# Altium footprint library footprints.PcbLib: 15 footprints
Each footprint in its own frame and in the unit in brackets; x right, y up, seen from the top. Pads: shape width x height; smd on the part's side, far side on the other; paste and mask are expansions set on the pad; w line width, h text height; cw(c..) or ccw(c..) is an arc to the next point about the centre after c.
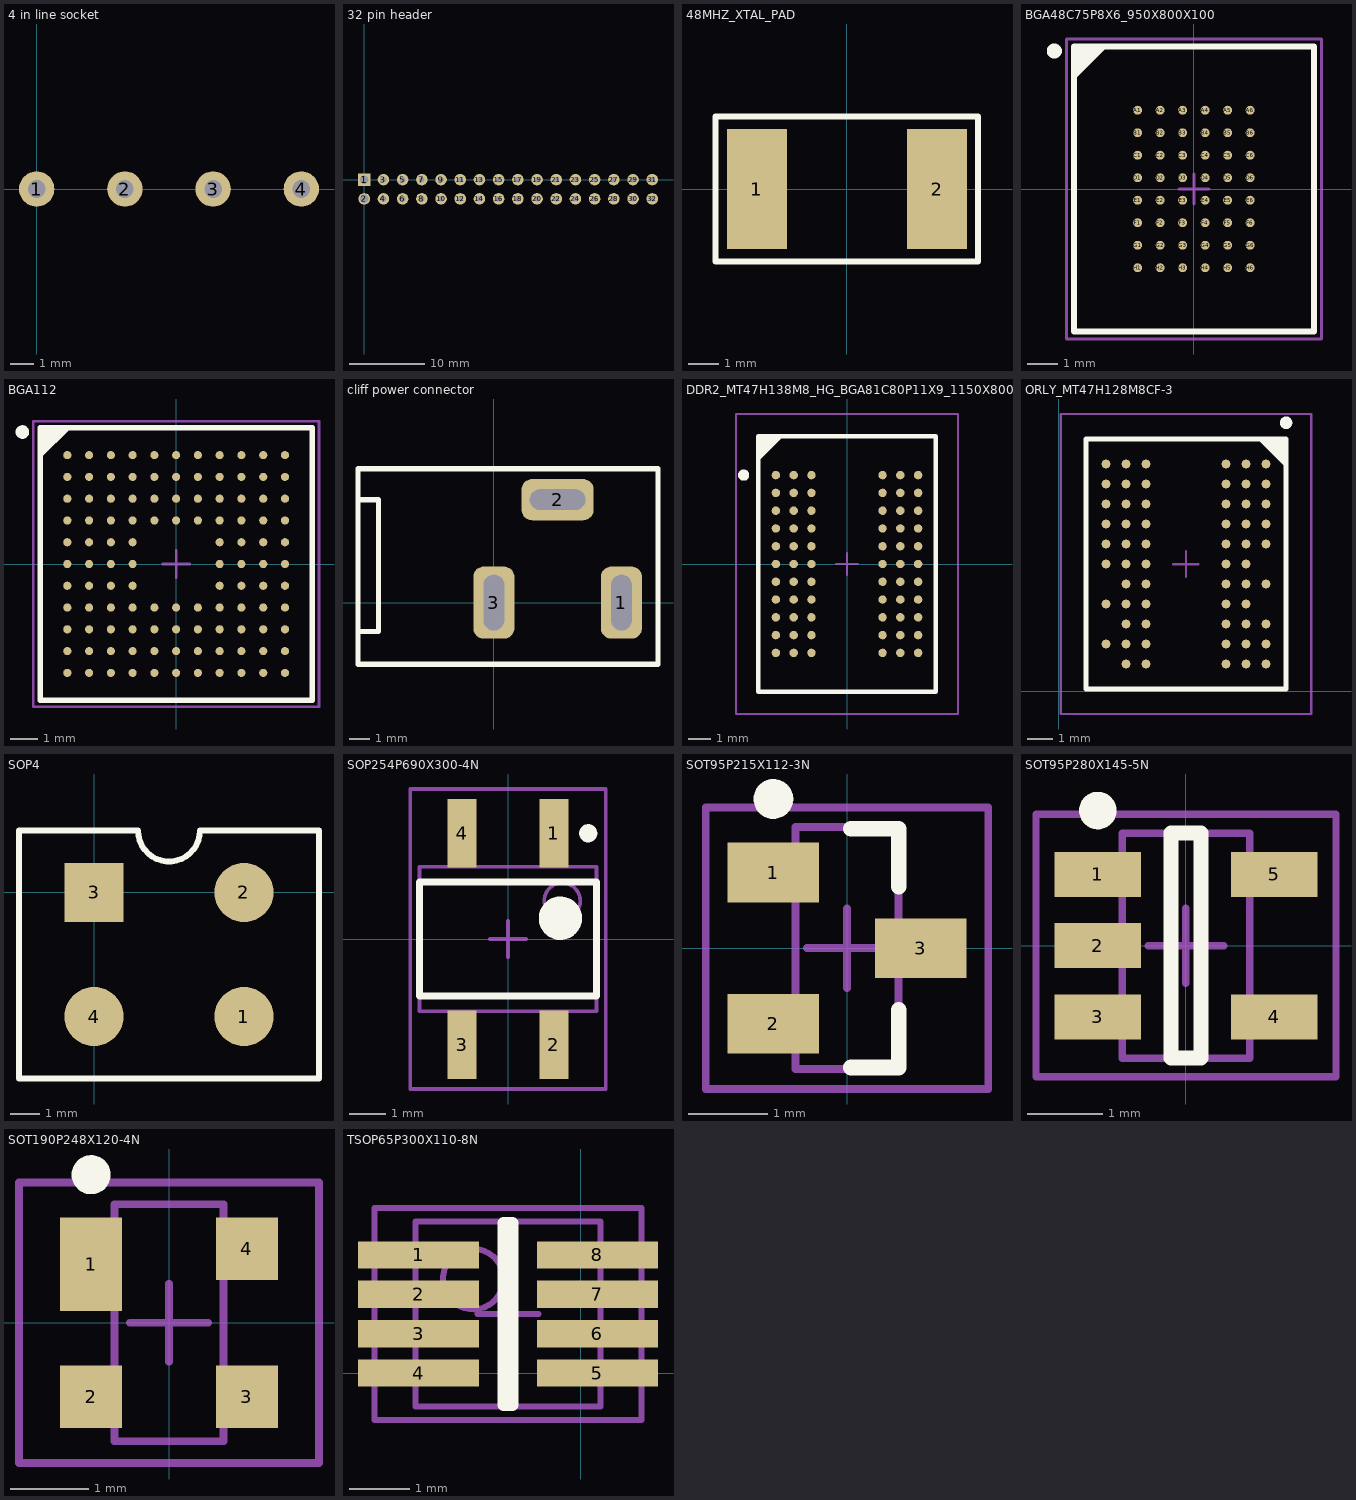
[diagram p0: the footprints below, top view; thin cyan lines are the x and y axes]

## 4 in line socket [mil]
pads (4):
  round 60 hole 30: 1(0,0) 2(149.61,0) 3(299.21,0) 4(448.82,0)

## 32 pin header [mil]
pads (32):
  rect 64.96x64.96 hole 43.31: 1(0,0)
  round 60 hole 43.31: 2(0,-100)
  round 60 hole 30: 3(100,0) 4(100,-100) 5(200,0) 6(200,-100) 7(300,0) 8(300,-100) 9(400,0) 10(400,-100) 11(500,0) 12(500,-100) 13(600,0) 14(600,-100) 15(700,0) 16(700,-100) 17(800,0) 18(800,-100) 19(900,0) 20(900,-100) 21(1000,0) 22(1000,-100) 23(1100,0) 24(1100,-100) 25(1200,0) 26(1200,-100) 27(1300,0) 28(1300,-100) 29(1400,0) 30(1400,-100) 31(1500,0) 32(1500,-100)

## 48MHZ_XTAL_PAD [mm]
pads (2):
  rect 2x4 smd: 1(-3,0) 2(3,0)
Top Overlay:
  lines w0.2: -4.375,-2.425 -4.375,0.375 -4.375,2.425 4.375,2.425 4.375,-2.425 -4.375,-2.425

## BGA48C75P8X6_950X800X100 [mm] "BGA, 48-Leads, Body 9.5x8.0mm,  Pitch 0.75mm"
height 1
pads (48):
  round 0.3 smd mask+0.06: A1(-1.875,2.625) A2(-1.125,2.625) A3(-0.375,2.625) A4(0.375,2.625) A5(1.125,2.625) A6(1.875,2.625) B1(-1.875,1.875) B2(-1.125,1.875) B3(-0.375,1.875) B4(0.375,1.875) B5(1.125,1.875) B6(1.875,1.875) C1(-1.875,1.125) C2(-1.125,1.125) C3(-0.375,1.125) C4(0.375,1.125) C5(1.125,1.125) C6(1.875,1.125) D1(-1.875,0.375) D2(-1.125,0.375) D3(-0.375,0.375) D4(0.375,0.375) D5(1.125,0.375) D6(1.875,0.375) E1(-1.875,-0.375) E2(-1.125,-0.375) E3(-0.375,-0.375) E4(0.375,-0.375) E5(1.125,-0.375) E6(1.875,-0.375) F1(-1.875,-1.125) F2(-1.125,-1.125) F3(-0.375,-1.125) F4(0.375,-1.125) F5(1.125,-1.125) F6(1.875,-1.125) G1(-1.875,-1.875) G2(-1.125,-1.875) G3(-0.375,-1.875) G4(0.375,-1.875) G5(1.125,-1.875) G6(1.875,-1.875) H1(-1.875,-2.625) H2(-1.125,-2.625) H3(-0.375,-2.625) H4(0.375,-2.625) H5(1.125,-2.625) H6(1.875,-2.625)
Top Overlay:
  circle w0.25: c-4.65,4.6 r0.125
  region: -3,4.75 -4,3.75 -4,4.75
  lines w0.2: -4,3.75 -3,4.75 ; -4,-4.75 4,-4.75 4,4.75 -4,4.75 -4,-4.75
Mechanical 13:
  lines w0.1: -4,-4.75 4,-4.75 4,4.75 -4,4.75 -4,-4.75
Mechanical 15:
  lines w0.1: -0.5,0 0.5,0 ; 0,-0.5 0,0.5 ; -4.25,-5 4.25,-5 4.25,5 -4.25,5 -4.25,-5
3D body: height 1, standoff 0.21, extent -4,-4.75 4,4.75

## BGA112 [mm] "BGA, 112-Leads, Body 10.0x10.0mm,  Pitch 0.80mm"
height 1.3
pads (112):
  round 0.3 smd: A1(-4,4) A2(-3.2,4) A3(-2.4,4) A4(-1.6,4) A5(-0.8,4) A6(0,4) A7(0.8,4) A8(1.6,4) A9(2.4,4) A10(3.2,4) A11(4,4) B1(-4,3.2) B2(-3.2,3.2) B3(-2.4,3.2) B4(-1.6,3.2) B5(-0.8,3.2) B6(0,3.2) B7(0.8,3.2) B8(1.6,3.2) B9(2.4,3.2) B10(3.2,3.2) B11(4,3.2) C1(-4,2.4) C2(-3.2,2.4) C3(-2.4,2.4) C4(-1.6,2.4) C5(-0.8,2.4) C6(0,2.4) C7(0.8,2.4) C8(1.6,2.4) C9(2.4,2.4) C10(3.2,2.4) C11(4,2.4) D1(-4,1.6) D2(-3.2,1.6) D3(-2.4,1.6) D4(-1.6,1.6) D5(-0.8,1.6) D6(0,1.6) D7(0.8,1.6) D8(1.6,1.6) D9(2.4,1.6) D10(3.2,1.6) D11(4,1.6) E1(-4,0.8) E2(-3.2,0.8) E3(-2.4,0.8) E4(-1.6,0.8) E8(1.6,0.8) E9(2.4,0.8) E10(3.2,0.8) E11(4,0.8) F1(-4,0) F2(-3.2,0) F3(-2.4,0) F4(-1.6,0) F8(1.6,0) F9(2.4,0) F10(3.2,0) F11(4,0) G1(-4,-0.8) G2(-3.2,-0.8) G3(-2.4,-0.8) G4(-1.6,-0.8) G8(1.6,-0.8) G9(2.4,-0.8) G10(3.2,-0.8) G11(4,-0.8) H1(-4,-1.6) H2(-3.2,-1.6) H3(-2.4,-1.6) H4(-1.6,-1.6) H5(-0.8,-1.6) H6(0,-1.6) H7(0.8,-1.6) H8(1.6,-1.6) H9(2.4,-1.6) H10(3.2,-1.6) H11(4,-1.6) J1(-4,-2.4) J2(-3.2,-2.4) J3(-2.4,-2.4) J4(-1.6,-2.4) J5(-0.8,-2.4) J6(0,-2.4) J7(0.8,-2.4) J8(1.6,-2.4) J9(2.4,-2.4) J10(3.2,-2.4) J11(4,-2.4) K1(-4,-3.2) K2(-3.2,-3.2) K3(-2.4,-3.2) K4(-1.6,-3.2) K5(-0.8,-3.2) K6(0,-3.2) K7(0.8,-3.2) K8(1.6,-3.2) K9(2.4,-3.2) K10(3.2,-3.2) K11(4,-3.2) L1(-4,-4) L2(-3.2,-4) L3(-2.4,-4) L4(-1.6,-4) L5(-0.8,-4) L6(0,-4) L7(0.8,-4) L8(1.6,-4) L9(2.4,-4) L10(3.2,-4) L11(4,-4)
Top Overlay:
  circle w0.25: c-5.65,4.85 r0.125
  region: -4,5 -5,4 -5,5
  lines w0.2: -5,4 -4,5 ; -5,-5 5,-5 5,5 -5,5 -5,-5
Mechanical 13:
  lines w0.1: -5,-5 5,-5 5,5 -5,5 -5,-5
Mechanical 15:
  lines w0.1: -0.5,0 0.5,0 ; 0,-0.5 0,0.5 ; -5.25,-5.25 5.25,-5.25 5.25,5.25 -5.25,5.25 -5.25,-5.25
3D body: height 1.3, standoff 0.3, extent -5,-5 5,5

## cliff power connector [mm]
pads (3):
  rrect50% 2x3.5 hole 1 slot 2.7 at 90 deg: 1(6.2,0) 3(0,0)
  rrect50% 3.5x2 hole 1 slot 2.7 at 0 deg: 2(3.1,5)
Top Overlay:
  lines w0.254: -6.6,-1.4 -5.6,-1.4 -5.6,5 -6.6,5 ; -6.6,-3 -6.6,6.5 -4.8,6.5 7.975,6.5 7.975,-3 -6.6,-3

## DDR2_MT47H138M8_HG_BGA81C80P11X9_1150X800X120 [mm] "BGA, 81-Leads, Body 11.5x8.0mm,  Pitch 0.80mm"
height 1.2
pads (66):
  round 0.38 smd: A1(-3.2,4) A2(-2.4,4) A3(-1.6,4) A7(1.6,4) A8(2.4,4) A9(3.2,4) B1(-3.2,3.2) B2(-2.4,3.2) B3(-1.6,3.2) B7(1.6,3.2) B8(2.4,3.2) B9(3.2,3.2) C1(-3.2,2.4) C2(-2.4,2.4) C3(-1.6,2.4) C7(1.6,2.4) C8(2.4,2.4) C9(3.2,2.4) D1(-3.2,1.6) D2(-2.4,1.6) D3(-1.6,1.6) D7(1.6,1.6) D8(2.4,1.6) D9(3.2,1.6) E1(-3.2,0.8) E2(-2.4,0.8) E3(-1.6,0.8) E7(1.6,0.8) E8(2.4,0.8) E9(3.2,0.8) F1(-3.2,0) F2(-2.4,0) F3(-1.6,0) F7(1.6,0) F8(2.4,0) F9(3.2,0) G1(-3.2,-0.8) G2(-2.4,-0.8) G3(-1.6,-0.8) G7(1.6,-0.8) G8(2.4,-0.8) G9(3.2,-0.8) H1(-3.2,-1.6) H2(-2.4,-1.6) H3(-1.6,-1.6) H7(1.6,-1.6) H8(2.4,-1.6) H9(3.2,-1.6) J1(-3.2,-2.4) J2(-2.4,-2.4) J3(-1.6,-2.4) J7(1.6,-2.4) J8(2.4,-2.4) J9(3.2,-2.4) K1(-3.2,-3.2) K2(-2.4,-3.2) K3(-1.6,-3.2) K7(1.6,-3.2) K8(2.4,-3.2) K9(3.2,-3.2) L1(-3.2,-4) L2(-2.4,-4) L3(-1.6,-4) L7(1.6,-4) L8(2.4,-4) L9(3.2,-4)
Top Overlay:
  circle w0.25: c-4.65,4 r0.125
  region: -3,5.75 -4,4.75 -4,5.75
  lines w0.2: -4,4.75 -3,5.75 ; -4,-5.75 4,-5.75 4,5.75 -4,5.75 -4,-5.75
Mechanical 13:
  lines w0.1: -4,-5.75 4,-5.75 4,5.75 -4,5.75 -4,-5.75
Mechanical 15:
  lines w0.1: -0.5,0 0.5,0 ; 0,-0.5 0,0.5 ; -5,-6.75 5,-6.75 5,6.75 -5,6.75 -5,-6.75
3D body: height 1.2, standoff 0.25, extent -4,-5.75 4,5.75

## ORLY_MT47H128M8CF-3 [mm]
height 1.2
pads (61):
  round 0.35 smd: A1(8.28,9.08) A2(7.48,9.08) A3(6.68,9.08) A7(3.48,9.08) A8(2.68,9.08) A9(1.88,9.08) B1(8.28,8.28) B2(7.48,8.28) B3(6.68,8.28) B7(3.48,8.28) B8(2.68,8.28) B9(1.88,8.28) C1(8.28,7.48) C2(7.48,7.48) C3(6.68,7.48) C7(3.48,7.48) C8(2.68,7.48) C9(1.88,7.48) D1(8.28,6.68) D2(7.48,6.68) D3(6.68,6.68) D7(3.48,6.68) D8(2.68,6.68) D9(1.88,6.68) E1(8.28,5.88) E2(7.48,5.88) E3(6.68,5.88) E7(3.48,5.88) E8(2.68,5.88) E9(1.88,5.88) F2(7.48,5.08) F3(6.68,5.08) F7(3.48,5.08) F8(2.68,5.08) F9(1.88,5.08) G1(8.28,4.28) G2(7.48,4.28) G3(6.68,4.28) G7(3.48,4.28) G8(2.68,4.28) H2(7.48,3.48) H3(6.68,3.48) H7(3.48,3.48) H8(2.68,3.48) H9(1.88,3.48) J1(8.28,2.68) J2(7.48,2.68) J3(6.68,2.68) J7(3.48,2.68) J8(2.68,2.68) K1(8.28,1.88) K2(7.48,1.88) K3(6.68,1.88) K7(3.48,1.88) K8(2.68,1.88) K9(1.88,1.88) L1(8.28,1.08) L2(7.48,1.08) L3(6.68,1.08) L7(3.48,1.08) L8(2.68,1.08)
Top Overlay:
  circle w0.25: c9.08,10.73 r0.125
  region: 9.08,9.08 8.08,10.08 9.08,10.08
  lines w0.2: 8.08,10.08 9.08,9.08 ; 1.08,0.08 1.08,10.08 9.08,10.08 9.08,0.08 1.08,0.08
Mechanical 13:
  lines w0.1: 1.08,0.08 1.08,10.08 9.08,10.08 9.08,0.08 1.08,0.08
Mechanical 15:
  lines w0.1: 4.58,5.08 5.58,5.08 ; 5.08,4.58 5.08,5.58 ; 0.08,-0.92 0.08,11.08 10.08,11.08 10.08,-0.92 0.08,-0.92
3D body: height 1.2, standoff 0.25, extent 1.08,0.08 9.08,10.08

## PCBComponent_1 [mm]

## SOP4 [mm]
pads (4):
  round 2 smd: 1(5.08,-4.2) 2(5.08,0) 4(0,-4.2)
  rect 2x2 smd: 3(0,0)
Top Overlay:
  lines w0.2: -2.54,-6.3 7.62,-6.3 7.62,2.1 3.59,2.1 cw(c2.54,2.1) 1.49,2.1 -2.54,2.1 -2.54,-6.3

## SOP254P690X300-4N [mm] "SOP, 4-Leads, Body 4.9x4.0mm (max), Pitch 2.54mm, IPC Medium Density"
height 3
pads (4):
  rect 0.8x1.9 smd: 1(1.27,2.925) 2(1.27,-2.925) 3(-1.27,-2.925) 4(-1.27,2.925)
Top Overlay:
  circle w0.6: c1.45,0.575 r0.3
  circle w0.25: c2.22,2.925 r0.125
  lines w0.2: -2.45,-1.575 -2.45,1.575 2.45,1.575 2.45,-1.575 -2.45,-1.575
Mechanical 13:
  circle w0.1: c1.5,1.05 r0.5
  lines w0.1: -2.45,-2 -2.45,2 2.45,2 2.45,-2 -2.45,-2
Mechanical 15:
  lines w0.1: -0.5,0 0.5,0 ; 0,-0.5 0,0.5 ; -2.7,-4.15 -2.7,4.15 2.7,4.15 2.7,-4.15 -2.7,-4.15
3D body: height 3, standoff 0.2, extent -2.45,-2 2.45,2

## SOT95P215X112-3N [mm] "SOT23, 3-Leads, Body 3.0x2.2mm (max), Pitch 0.95mm, IPC Medium Density"
height 1.12
pads (3):
  rect 1.15x0.75 smd: 1(-0.925,0.95) 2(-0.925,-0.95) 3(0.925,0)
Top Overlay:
  circle w0.25: c-0.925,1.875 r0.125
  lines w0.2: 0.05,-1.5 0.65,-1.5 0.65,-0.775 ; 0.05,1.5 0.65,1.5 0.65,0.775
Mechanical 13:
  lines w0.1: -0.65,-1.52 0.65,-1.52 0.65,1.52 -0.65,1.52 -0.65,-1.52
Mechanical 15:
  lines w0.1: -0.5,0 0.5,0 ; 0,-0.5 0,0.5 ; -1.775,-1.77 1.775,-1.77 1.775,1.77 -1.775,1.77 -1.775,-1.77
3D body: height 1.12, standoff 0.01, extent -0.65,-1.52 0.65,1.52

## SOT95P280X145-5N [mm] "SOT23, 5-Leads, Body 3.0x3.0mm (max), Pitch 0.95mm, IPC Medium Density"
height 1.45
pads (5):
  rect 1.15x0.6 smd: 1(-1.175,0.95) 2(-1.175,0) 3(-1.175,-0.95) 4(1.175,-0.95) 5(1.175,0.95)
Top Overlay:
  circle w0.25: c-1.175,1.8 r0.125
  lines w0.2: -0.2,-1.5 0.2,-1.5 0.2,1.5 -0.2,1.5 -0.2,-1.5
Mechanical 13:
  lines w0.1: -0.85,-1.5 -0.85,1.5 0.85,1.5 0.85,-1.5 -0.85,-1.5
Mechanical 15:
  lines w0.1: -0.5,0 0.5,0 ; 0,-0.5 0,0.5 ; -2,-1.75 -2,1.75 2,1.75 2,-1.75 -2,-1.75
3D body: height 1.45, standoff 0.05, extent -0.85,-1.5 0.85,1.5

## SOT190P248X120-4N [mm] "SOT143, 4-Leads, Body 3.0x2.5mm (max), Pitch 1.90mm, IPC Medium Density"
height 1.2
pads (4):
  rect 0.8x1.2 smd: 1(-1,0.75)
  rect 0.8x0.8 smd: 2(-1,-0.95) 3(1,-0.95) 4(1,0.95)
Top Overlay:
  circle w0.25: c-1,1.9 r0.125
Mechanical 13:
  lines w0.1: -0.7,-1.52 0.7,-1.52 0.7,1.52 -0.7,1.52 -0.7,-1.52
Mechanical 15:
  lines w0.1: -0.5,0 0.5,0 ; 0,-0.5 0,0.5 ; -1.925,-1.8 1.925,-1.8 1.925,1.8 -1.925,1.8 -1.925,-1.8
3D body: height 1.2, standoff 0.15, extent -0.7,-1.52 0.7,1.52

## TSOP65P300X110-8N [mm] "TSOP, 8-Leads, Body 3.0x3.0mm (max), Pitch 0.65mm, IPC Medium Density"
height 1.1
pads (8):
  rect 2x0.45 smd: 1(-2.675,1.95) 2(-2.675,1.3) 3(-2.675,0.65) 4(-2.675,0) 5(0.275,0) 6(0.275,0.65) 7(0.275,1.3) 8(0.275,1.95)
Top Overlay:
  lines w0.2: -1.275,-0.525 -1.275,2.475 -1.125,2.475 -1.125,-0.525 -1.275,-0.525
Mechanical 13:
  circle w0.1: c-1.775,1.55 r0.5
  lines w0.1: -2.725,-0.55 -2.725,2.5 0.325,2.5 0.325,-0.55 -2.725,-0.55
Mechanical 15:
  lines w0.1: -1.7,0.975 -0.7,0.975 ; -1.2,0.475 -1.2,1.475 ; -3.4,-0.775 -3.4,2.725 1,2.725 1,-0.775 -3.4,-0.775
3D body: height 1.1, standoff 0.05, extent -2.725,-0.55 0.325,2.5